# EAGLE library part CARTSLOT-AGB (library arcadetv)
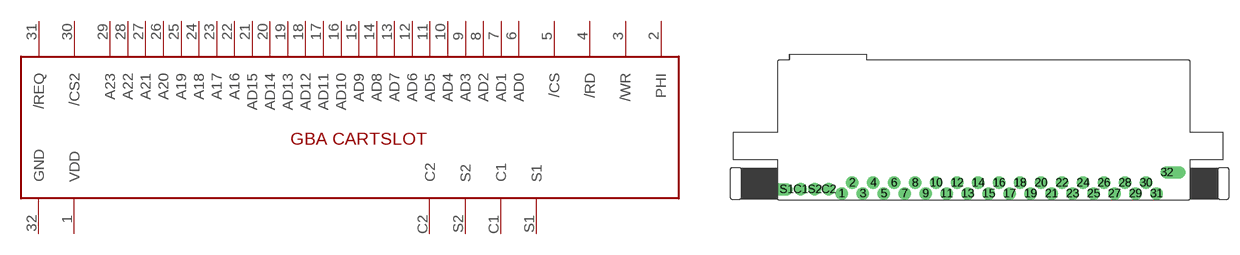
[diagram p14: symbol with the pads of CARTSLOT-AGB; footprint CARTSLOT-AGB]

Designator prefix -

## CARTSLOT-AGB  [CARTSLOT-AGB]
1  VDD
2  PHI
3  /WR
4  /RD
5  /CS
6  AD0
7  AD1
8  AD2
9  AD3
10  AD4
11  AD5
12  AD6
13  AD7
14  AD8
15  AD9
16  AD10
17  AD11
18  AD12
19  AD13
20  AD14
21  AD15
22  A16
23  A17
24  A18
25  A19
26  A20
27  A21
28  A22
29  A23
30  /CS2
31  /REQ
32  GND
C1  C1
C2  C2
S1  S1
S2  S2

## Footprint CARTSLOT-AGB (pad centres in mm)
drill 1.2: 1 15.973,-3.692; 2 17.474,-2.148; 3 18.975,-3.692; 4 20.476,-2.148; 5 21.977,-3.692; 6 23.478,-2.148; 7 24.98,-3.692; 8 26.481,-2.148; 9 27.982,-3.692; 10 29.483,-2.148; 11 30.984,-3.692; 12 32.485,-2.148; 13 33.986,-3.692; 14 35.487,-2.148; 15 36.989,-3.692; 16 38.49,-2.148; 17 39.991,-3.692; 18 41.492,-2.148; 19 42.993,-3.692; 20 44.494,-2.148; 21 45.995,-3.692; 22 47.497,-2.148; 23 48.998,-3.692; 24 50.499,-2.148; 25 52,-3.692; 26 53.501,-2.148; 27 55.002,-3.692; 28 56.503,-2.148; 29 58.005,-3.692; 30 59.506,-2.148; 31 61.007,-3.692; C1 10.09,-3.087; C2 14.109,-3.087; S2 12.1,-3.087
drill 1.2 offset: 32 62.489,-0.668; S1 8.081,-3.087